# Altium footprint library PQQ10WQ24S3S.PcbLib: 1 footprints
Each footprint in its own frame and in the unit in brackets; x right, y up, seen from the top. Pads: shape width x height; smd on the part's side, far side on the other; paste and mask are expansions set on the pad; w line width, h text height; cw(c..) or ccw(c..) is an arc to the next point about the centre after c.
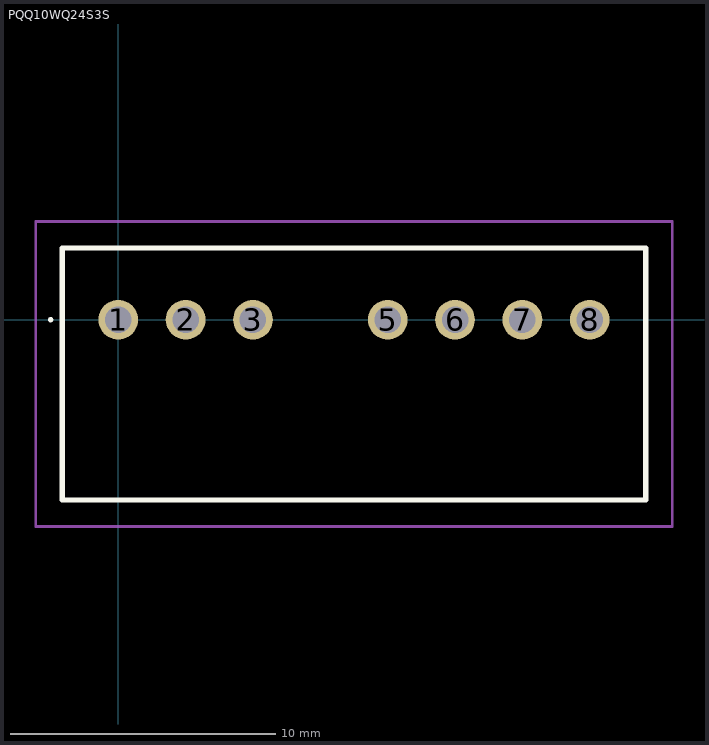
[diagram p0: the footprint, top view; thin cyan lines are the x and y axes]

## PQQ10WQ24S3S [mm]
pads (7):
  round 1.5 hole 1: 1(0,0) 2(2.54,0) 3(5.08,0) 5(10.16,0) 6(12.7,0) 7(15.24,0) 8(17.78,0)
Top Overlay:
  lines w0.1: -2.6,0 -2.6,0 ; -2.6,0 ccw(c-2.55,0) -2.5,0 ; -2.6,0 cw(c-2.55,0) -2.5,0 ; -2.5,0 -2.5,0
  lines w0.2: -2.11,-6.8 19.89,-6.8 19.89,2.7 -2.11,2.7 -2.11,-6.8
Mechanical 15:
  lines w0.1: -2.11,-6.8 19.89,-6.8 19.89,2.7 -2.11,2.7 -2.11,-6.8
Mechanical 20:
  lines w0.1: -3.11,-7.8 20.89,-7.8 20.89,3.7 -3.11,3.7 -3.11,-7.8